# EAGLE library part DINKLE142R12 (library dinkleCustom)
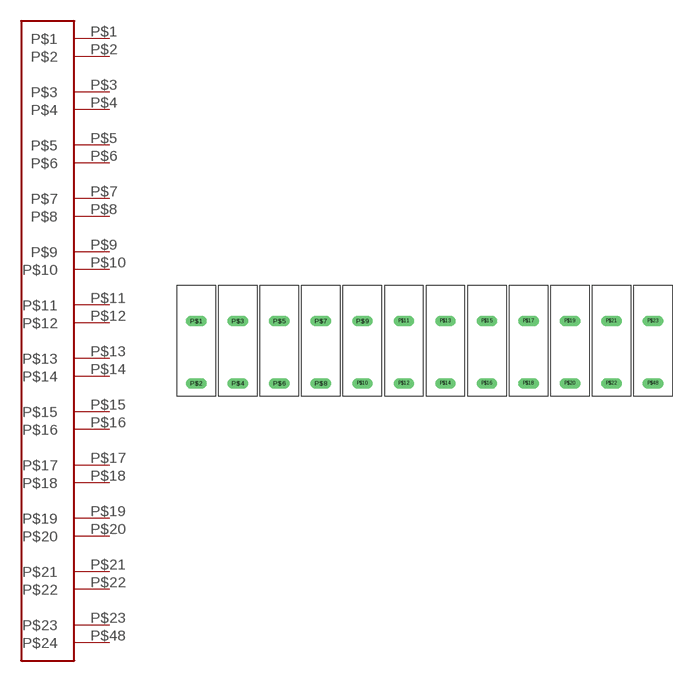
[diagram p0: symbol with the pads of DINKLE142R12; footprint DINKLE142R12]

Designator prefix -

## DINKLE142R12  [DINKLE142R12]
P$1  P$1
P$2  P$2
P$3  P$3
P$4  P$4
P$5  P$5
P$6  P$6
P$7  P$7
P$8  P$8
P$9  P$9
P$10  P$10
P$11  P$11
P$12  P$12
P$13  P$13
P$14  P$14
P$15  P$15
P$16  P$16
P$17  P$17
P$18  P$18
P$19  P$19
P$20  P$20
P$21  P$21
P$22  P$22
P$23  P$23
P$48  P$24

## Footprint DINKLE142R12 (pad centres in mm)
drill 0.75 long: P$1 -25.4,3.81; P$2 -25.4,-3.81; P$3 -20.32,3.81; P$4 -20.32,-3.81; P$5 -15.24,3.81; P$6 -15.24,-3.81; P$7 -10.16,3.81; P$8 -10.16,-3.81; P$9 -5.08,3.81; P$10 -5.08,-3.81; P$11 0,3.81; P$12 0,-3.81; P$13 5.08,3.81; P$14 5.08,-3.81; P$15 10.16,3.81; P$16 10.16,-3.81; P$17 15.24,3.81; P$18 15.24,-3.81; P$19 20.32,3.81; P$20 20.32,-3.81; P$21 25.4,3.81; P$22 25.4,-3.81; P$23 30.48,3.81; P$48 30.48,-3.81